# Altium schematic symbol library TPS74533PCQWDRVRQ1.SchLib: 1 symbol
Pins are listed as number, name and electrical type; pins without a type are passive.

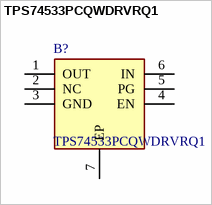
[diagram p0: symbol TPS74533PCQWDRVRQ1]

## TPS74533PCQWDRVRQ1
designator B?
LDO Voltage Regulators Automotive 500-mA, low-IQ, high-PSRR,&nbsp;low-dropout (LDO) voltage regulator with power good</p 6-WSON -40 to 125; Manufacturer_Name: Texas Instruments; Geometry.Height: 0.8mm; Mouser Part Number: 595-S74533PCQWDRVRQ1; Mouser Price/Stock: https://www.mouser.co.uk/ProductDetail/Texas-Instruments/TPS74533PCQWDRVRQ1?qs=%252B6g0mu59x7JbJkoA8apsGg%3D%3D; Manufacturer_Part_Number: TPS74533PCQWDRVRQ1; Datasheet Link: https://www.ti.com/lit/ds/symlink/tps745-q1.pdf?HQS=dis-mous-null-mousermode-dsf-pf-null-wwe&ts=1682067521580&ref_url=https%253A%252F%252Fwww.mouser.co.il%252F
footprint SON65P200X200X80-7N
pins: 1 OUT, 2 NC, 3 GND, 4 EN, 5 PG, 6 IN, 7 EP